# EAGLE library part MS5540C (library SHC)
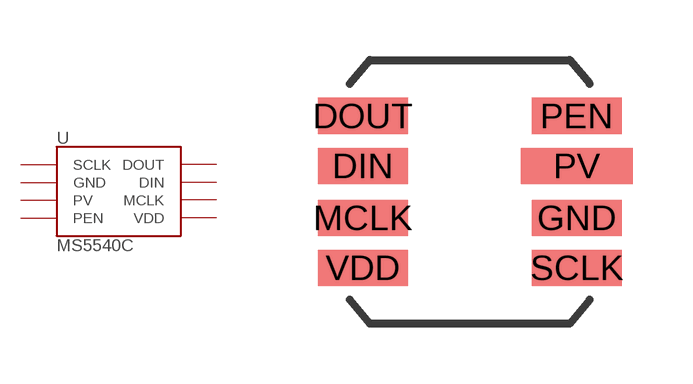
[diagram p46: symbol with the pads of MS5540C; footprint MS5540C]

Designator prefix -

## MS5540C  [MS5540C]
DIN  DIN
DOUT  DOUT
GND  GND
MCLK  MCLK
PEN  PEN
PV  PV
SCLK  SCLK
VDD  VDD

## Footprint MS5540C (pad centres in mm)
smd 2.25 x 0.9: DIN -2.675,0.65; DOUT -2.675,1.9; GND 2.675,-0.65; MCLK -2.675,-0.65; PEN 2.675,1.9; SCLK 2.675,-1.9; VDD -2.675,-1.9
smd 2.8 x 0.9: PV 2.675,0.65